# Altium footprint library Package_TO_SOT_SMD.PcbLib: 125 footprints (part 7 of 8)
Each footprint in its own frame and in the unit in brackets; x right, y up, seen from the top. Pads: shape width x height; smd on the part's side, far side on the other; paste and mask are expansions set on the pad; w line width, h text height; cw(c..) or ccw(c..) is an arc to the next point about the centre after c.
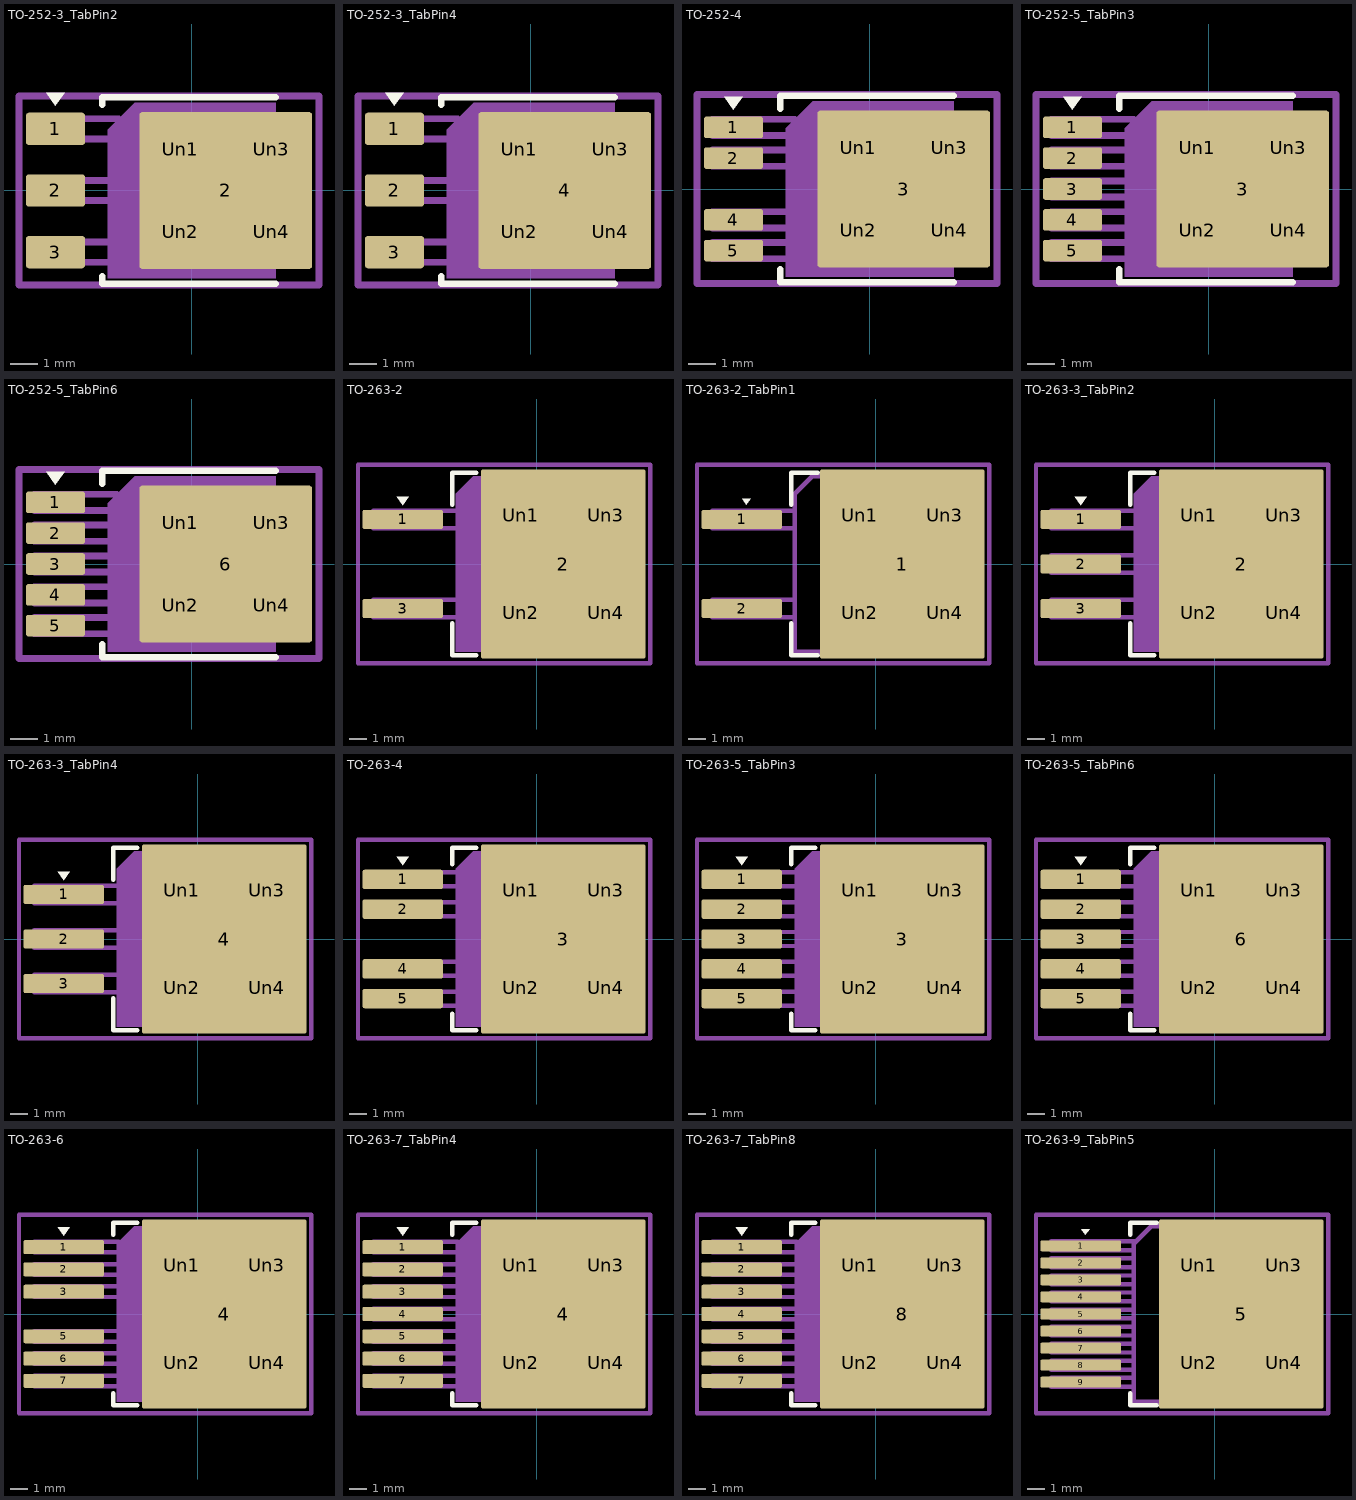
[diagram p6: the footprints below, top view; thin cyan lines are the x and y axes]

## TO-252-3_TabPin2 [mm] "TO-252-3_TabPin2"
pads (8):
  rrect21% 2.2x1.2 smd: 1(-5.04,2.28) 2(-5.04,0) 3(-5.04,-2.28)
  rrect4% 6.4x5.8 smd: 2(1.26,0)
  rrect9% 3.05x2.75 on Top Paste: Un1(-0.415,1.525) Un2(-0.415,-1.525) Un3(2.935,1.525) Un4(2.935,-1.525)
F.SilkS:
  region: -5.04,3.14 -5.38,3.61 -4.7,3.61
  lines w0.254: -3.31,-3.18 -3.31,-3.45 3.11,-3.45 ; -3.31,3.18 -3.31,3.45 3.11,3.45
Top Component Center:
  lines w0.127: -0.127,0 0.127,0 ; 0,-0.127 0,0.127
Top Assembly:
  region: 3.11,-3.25 -3.11,-3.25 -3.11,2.25 -2.11,3.25 3.11,3.25
  lines w0.254: -3.11,-2.655 -5.81,-2.655 -5.81,-1.905 -3.11,-1.905 ; -3.11,-0.375 -5.81,-0.375 -5.81,0.375 -3.11,0.375 ; -3.11,1.905 -5.81,1.905 -5.81,2.655 -2.705,2.655 ; 3.11,-2.7 4.11,-2.7 4.11,2.7 3.11,2.7
Top Courtyard:
  lines w0.254: -6.39,-3.5 4.71,-3.5 4.71,3.5 -6.39,3.5 -6.39,-3.5
Top Designator:
  text ".Designator" at -3.432,-0.345 h1.52
3D body "TO-252-3_TabPin2.step": height 2.32, standoff 0, extent -5.79,-3.25 4.11,3.25

## TO-252-3_TabPin4 [mm] "TO-252-3_TabPin4"
pads (8):
  rrect21% 2.2x1.2 smd: 1(-5.04,2.28) 2(-5.04,0) 3(-5.04,-2.28)
  rrect4% 6.4x5.8 smd: 4(1.26,0)
  rrect9% 3.05x2.75 on Top Paste: Un1(-0.415,1.525) Un2(-0.415,-1.525) Un3(2.935,1.525) Un4(2.935,-1.525)
F.SilkS:
  region: -5.04,3.14 -5.38,3.61 -4.7,3.61
  lines w0.254: -3.31,-3.18 -3.31,-3.45 3.11,-3.45 ; -3.31,3.18 -3.31,3.45 3.11,3.45
Top Component Center:
  lines w0.127: -0.127,0 0.127,0 ; 0,-0.127 0,0.127
Top Assembly:
  region: 3.11,-3.25 -3.11,-3.25 -3.11,2.25 -2.11,3.25 3.11,3.25
  lines w0.254: -3.11,-2.655 -5.81,-2.655 -5.81,-1.905 -3.11,-1.905 ; -3.11,-0.375 -5.81,-0.375 -5.81,0.375 -3.11,0.375 ; -3.11,1.905 -5.81,1.905 -5.81,2.655 -2.705,2.655 ; 3.11,-2.7 4.11,-2.7 4.11,2.7 3.11,2.7
Top Courtyard:
  lines w0.254: -6.39,-3.5 -6.39,3.5 4.71,3.5 4.71,-3.5 -6.39,-3.5
Top Designator:
  text ".Designator" at -3.432,-0.345 h1.52
3D body "TO-252-3_TabPin4.step": height 2.32, standoff 0, extent -5.79,-3.25 4.11,3.25

## TO-252-4 [mm] "TO-252-4"
pads (9):
  rrect25% 2.2x0.8 smd: 1(-5.04,2.28) 2(-5.04,1.14) 4(-5.04,-1.14) 5(-5.04,-2.28)
  rrect4% 6.4x5.8 smd: 3(1.26,0)
  rrect9% 3.05x2.75 on Top Paste: Un1(-0.415,1.525) Un2(-0.415,-1.525) Un3(2.935,1.525) Un4(2.935,-1.525)
F.SilkS:
  region: -5.04,2.94 -5.38,3.41 -4.7,3.41
  lines w0.254: -3.31,-2.98 -3.31,-3.45 3.11,-3.45 ; -3.31,2.98 -3.31,3.45 3.11,3.45
Top Component Center:
  lines w0.127: -0.127,0 0.127,0 ; 0,-0.127 0,0.127
Top Assembly:
  region: 3.11,-3.25 -3.11,-3.25 -3.11,2.25 -2.11,3.25 3.11,3.25
  lines w0.254: -3.11,-2.58 -5.81,-2.58 -5.81,-1.98 -3.11,-1.98 ; -3.11,-1.44 -5.81,-1.44 -5.81,-0.84 -3.11,-0.84 ; -3.11,0.84 -5.81,0.84 -5.81,1.44 -3.11,1.44 ; -3.11,1.98 -5.81,1.98 -5.81,2.58 -2.78,2.58 ; 3.11,-2.7 4.11,-2.7 4.11,2.7 3.11,2.7
Top Courtyard:
  lines w0.254: -6.39,-3.5 -6.39,3.5 4.71,3.5 4.71,-3.5 -6.39,-3.5
Top Designator:
  text ".Designator" at -3.432,-0.345 h1.52
3D body "TO-252-4.step": height 2.32, standoff 0, extent -5.79,-3.25 4.11,3.25

## TO-252-5_TabPin3 [mm] "TO-252-5_TabPin3"
pads (10):
  rrect25% 2.2x0.8 smd: 1(-5.04,2.28) 2(-5.04,1.14) 3(-5.04,0) 4(-5.04,-1.14) 5(-5.04,-2.28)
  rrect4% 6.4x5.8 smd: 3(1.26,0)
  rrect9% 3.05x2.75 on Top Paste: Un1(-0.415,1.525) Un2(-0.415,-1.525) Un3(2.935,1.525) Un4(2.935,-1.525)
F.SilkS:
  region: -5.04,2.94 -5.38,3.41 -4.7,3.41
  lines w0.254: -3.31,-2.98 -3.31,-3.45 3.11,-3.45 ; -3.31,2.98 -3.31,3.45 3.11,3.45
Top Component Center:
  lines w0.127: -0.127,0 0.127,0 ; 0,-0.127 0,0.127
Top Assembly:
  region: 3.11,-3.25 -3.11,-3.25 -3.11,2.25 -2.11,3.25 3.11,3.25
  lines w0.254: -3.11,-2.58 -5.81,-2.58 -5.81,-1.98 -3.11,-1.98 ; -3.11,-1.44 -5.81,-1.44 -5.81,-0.84 -3.11,-0.84 ; -3.11,-0.3 -5.81,-0.3 -5.81,0.3 -3.11,0.3 ; -3.11,0.84 -5.81,0.84 -5.81,1.44 -3.11,1.44 ; -3.11,1.98 -5.81,1.98 -5.81,2.58 -2.78,2.58 ; 3.11,-2.7 4.11,-2.7 4.11,2.7 3.11,2.7
Top Courtyard:
  lines w0.254: -6.39,-3.5 4.71,-3.5 4.71,3.5 -6.39,3.5 -6.39,-3.5
Top Designator:
  text ".Designator" at -3.432,-0.345 h1.52
3D body "TO-252-5_TabPin3.step": height 2.32, standoff 0, extent -5.79,-3.25 4.11,3.25

## TO-252-5_TabPin6 [mm] "TO-252-5_TabPin6"
pads (10):
  rrect25% 2.2x0.8 smd: 1(-5.04,2.28) 2(-5.04,1.14) 3(-5.04,0) 4(-5.04,-1.14) 5(-5.04,-2.28)
  rrect4% 6.4x5.8 smd: 6(1.26,0)
  rrect9% 3.05x2.75 on Top Paste: Un1(-0.415,1.525) Un2(-0.415,-1.525) Un3(2.935,1.525) Un4(2.935,-1.525)
F.SilkS:
  region: -5.04,2.94 -5.38,3.41 -4.7,3.41
  lines w0.254: -3.31,-2.98 -3.31,-3.45 3.11,-3.45 ; -3.31,2.98 -3.31,3.45 3.11,3.45
Top Component Center:
  lines w0.127: -0.127,0 0.127,0 ; 0,-0.127 0,0.127
Top Assembly:
  region: 3.11,-3.25 -3.11,-3.25 -3.11,2.25 -2.11,3.25 3.11,3.25
  lines w0.254: -3.11,-2.58 -5.81,-2.58 -5.81,-1.98 -3.11,-1.98 ; -3.11,-1.44 -5.81,-1.44 -5.81,-0.84 -3.11,-0.84 ; -3.11,-0.3 -5.81,-0.3 -5.81,0.3 -3.11,0.3 ; -3.11,0.84 -5.81,0.84 -5.81,1.44 -3.11,1.44 ; -3.11,1.98 -5.81,1.98 -5.81,2.58 -2.78,2.58 ; 3.11,-2.7 4.11,-2.7 4.11,2.7 3.11,2.7
Top Courtyard:
  lines w0.254: -6.39,-3.5 4.71,-3.5 4.71,3.5 -6.39,3.5 -6.39,-3.5
Top Designator:
  text ".Designator" at -3.432,-0.345 h1.52
3D body "TO-252-5_TabPin6.step": height 2.32, standoff 0, extent -5.79,-3.25 4.11,3.25

## TO-263-2 [mm] "TO-263-2"
pads (7):
  rrect23% 4.6x1.1 smd: 1(-7.65,2.54) 3(-7.65,-2.54)
  rrect3% 9.4x10.8 smd: 2(1.5,0)
  rrect5% 4.55x5.25 on Top Paste: Un1(-0.925,2.775) Un2(-0.925,-2.775) Un3(3.925,2.775) Un4(3.925,-2.775)
F.SilkS:
  region: -7.65,3.35 -7.99,3.82 -7.31,3.82
  lines w0.254: -4.825,-3.39 -4.825,-5.2 -3.46,-5.2 ; -4.825,3.39 -4.825,5.2 -3.46,5.2
Top Component Center:
  lines w0.127: -0.127,0 0.127,0 ; 0,-0.127 0,0.127
Top Assembly:
  region: 4.625,-5 -4.625,-5 -4.625,4 -3.625,5 4.625,5
  lines w0.254: -4.625,-3.04 -9.325,-3.04 -9.325,-2.04 -4.625,-2.04 ; -4.625,2.04 -9.325,2.04 -9.325,3.04 -4.625,3.04 ; 4.625,-5 5.625,-5 5.625,5 4.625,5
  text "'.Designator'" at -4.047,-0.84 h1
Top Courtyard:
  lines w0.254: -10.2,-5.65 6.45,-5.65 6.45,5.65 -10.2,5.65 -10.2,-5.65
Top Designator:
  text ".Designator" at -3.432,-0.345 h1.52
3D body "TO-263-2.step": height 4.42, standoff 0, extent -9.375,-5 5.625,5

## TO-263-2_TabPin1 [mm] "TO-263-2_TabPin1"
pads (7):
  rrect25% 4.6x1.1 smd: 1(-7.65,2.54) 2(-7.65,-2.54)
  rrect3% 9.4x10.8 smd: 1(1.5,0)
  rrect5% 4.55x5.25 on Top Paste: Un1(-0.925,2.775) Un2(-0.925,-2.775) Un3(3.925,2.775) Un4(3.925,-2.775)
F.SilkS:
  region: -7.388,3.39 -7.628,3.72 -7.147,3.72
  lines w0.254: -4.825,-3.39 -4.825,-5.2 -3.325,-5.2 ; -4.825,3.39 -4.825,5.2 -3.325,5.2
Top Component Center:
  lines w0.127: -0.127,0 0.127,0 ; 0,-0.127 0,0.127
Top Assembly:
  lines w0.254: -4.625,-3.04 -9.325,-3.04 -9.325,-2.04 -4.625,-2.04 ; -4.625,2.04 -9.325,2.04 -9.325,3.04 -4.625,3.04 ; 4.625,-5 4.625,5 ; 4.625,-5 -4.625,-5 -4.625,4 -3.625,5 4.625,5 ; 4.625,-5 5.625,-5 5.625,5 4.625,5
Top Courtyard:
  lines w0.254: -10.2,-5.65 -10.2,5.65 6.45,5.65 6.45,-5.65 -10.2,-5.65
Top Designator:
  text ".Designator" at -3.432,-0.345 h1.52
3D body "TO-263-2.step": height 4.42, standoff 0, extent -9.375,-5 5.625,5

## TO-263-3_TabPin2 [mm] "TO-263-3_TabPin2"
pads (8):
  rrect23% 4.6x1.1 smd: 1(-7.65,2.54) 2(-7.65,0) 3(-7.65,-2.54)
  rrect3% 9.4x10.8 smd: 2(1.5,0)
  rrect5% 4.55x5.25 on Top Paste: Un1(-0.925,2.775) Un2(-0.925,-2.775) Un3(3.925,2.775) Un4(3.925,-2.775)
F.SilkS:
  region: -7.65,3.35 -7.99,3.82 -7.31,3.82
  lines w0.254: -4.825,-3.39 -4.825,-5.2 -3.46,-5.2 ; -4.825,3.39 -4.825,5.2 -3.46,5.2
Top Component Center:
  lines w0.127: -0.127,0 0.127,0 ; 0,-0.127 0,0.127
Top Assembly:
  region: 4.625,-5 -4.625,-5 -4.625,4 -3.625,5 4.625,5
  lines w0.254: -4.625,-3.04 -9.325,-3.04 -9.325,-2.04 -4.625,-2.04 ; -4.625,-0.5 -9.325,-0.5 -9.325,0.5 -4.625,0.5 ; -4.625,2.04 -9.325,2.04 -9.325,3.04 -4.625,3.04 ; 4.625,-5 5.625,-5 5.625,5 4.625,5
  text "'.Designator'" at -4.047,-0.84 h1
Top Courtyard:
  lines w0.254: -10.2,-5.65 -10.2,5.65 6.45,5.65 6.45,-5.65 -10.2,-5.65
Top Designator:
  text ".Designator" at -3.432,-0.345 h1.52
3D body "TO-263-3_TabPin2.step": height 4.42, standoff 0, extent -9.375,-5 5.625,5

## TO-263-3_TabPin4 [mm] "TO-263-3_TabPin4"
pads (8):
  rrect23% 4.6x1.1 smd: 1(-7.65,2.54) 2(-7.65,0) 3(-7.65,-2.54)
  rrect3% 9.4x10.8 smd: 4(1.5,0)
  rrect5% 4.55x5.25 on Top Paste: Un1(-0.925,2.775) Un2(-0.925,-2.775) Un3(3.925,2.775) Un4(3.925,-2.775)
F.SilkS:
  region: -7.65,3.35 -7.99,3.82 -7.31,3.82
  lines w0.254: -4.825,-3.39 -4.825,-5.2 -3.46,-5.2 ; -4.825,3.39 -4.825,5.2 -3.46,5.2
Top Component Center:
  lines w0.127: -0.127,0 0.127,0 ; 0,-0.127 0,0.127
Top Assembly:
  region: 4.625,-5 -4.625,-5 -4.625,4 -3.625,5 4.625,5
  lines w0.254: -4.625,-3.04 -9.325,-3.04 -9.325,-2.04 -4.625,-2.04 ; -4.625,-0.5 -9.325,-0.5 -9.325,0.5 -4.625,0.5 ; -4.625,2.04 -9.325,2.04 -9.325,3.04 -4.625,3.04 ; 4.625,-5 5.625,-5 5.625,5 4.625,5
  text "'.Designator'" at -4.047,-0.84 h1
Top Courtyard:
  lines w0.254: -10.2,-5.65 6.45,-5.65 6.45,5.65 -10.2,5.65 -10.2,-5.65
Top Designator:
  text ".Designator" at -3.432,-0.345 h1.52
3D body "TO-263-3_TabPin4.step": height 4.42, standoff 0, extent -9.375,-5 5.625,5

## TO-263-4 [mm] "TO-263-4"
pads (9):
  rrect23% 4.6x1.1 smd: 1(-7.65,3.4) 2(-7.65,1.7) 4(-7.65,-1.7) 5(-7.65,-3.4)
  rrect3% 9.4x10.8 smd: 3(1.5,0)
  rrect5% 4.55x5.25 on Top Paste: Un1(-0.925,2.775) Un2(-0.925,-2.775) Un3(3.925,2.775) Un4(3.925,-2.775)
F.SilkS:
  region: -7.65,4.21 -7.99,4.68 -7.31,4.68
  lines w0.254: -4.825,-4.25 -4.825,-5.2 -3.46,-5.2 ; -4.825,4.25 -4.825,5.2 -3.46,5.2
Top Component Center:
  lines w0.127: -0.127,0 0.127,0 ; 0,-0.127 0,0.127
Top Assembly:
  region: 4.625,-5 -4.625,-5 -4.625,4 -3.625,5 4.625,5
  lines w0.254: -4.625,-3.8 -9.325,-3.8 -9.325,-3 -4.625,-3 ; -4.625,-2.1 -9.325,-2.1 -9.325,-1.3 -4.625,-1.3 ; -4.625,1.3 -9.325,1.3 -9.325,2.1 -4.625,2.1 ; -4.625,3 -9.325,3 -9.325,3.8 -4.625,3.8 ; 4.625,-5 5.625,-5 5.625,5 4.625,5
  text "'.Designator'" at -4.047,-0.84 h1
Top Courtyard:
  lines w0.254: -10.2,-5.65 6.45,-5.65 6.45,5.65 -10.2,5.65 -10.2,-5.65
Top Designator:
  text ".Designator" at -3.432,-0.345 h1.52
3D body "TO-263-4.step": height 4.42, standoff 0, extent -9.375,-5 5.625,5

## TO-263-5_TabPin3 [mm] "TO-263-5_TabPin3"
pads (10):
  rrect23% 4.6x1.1 smd: 1(-7.65,3.4) 2(-7.65,1.7) 3(-7.65,0) 4(-7.65,-1.7) 5(-7.65,-3.4)
  rrect3% 9.4x10.8 smd: 3(1.5,0)
  rrect5% 4.55x5.25 on Top Paste: Un1(-0.925,2.775) Un2(-0.925,-2.775) Un3(3.925,2.775) Un4(3.925,-2.775)
F.SilkS:
  region: -7.65,4.21 -7.99,4.68 -7.31,4.68
  lines w0.254: -4.825,-4.25 -4.825,-5.2 -3.46,-5.2 ; -4.825,4.25 -4.825,5.2 -3.46,5.2
Top Component Center:
  lines w0.127: -0.127,0 0.127,0 ; 0,-0.127 0,0.127
Top Assembly:
  region: 4.625,-5 -4.625,-5 -4.625,4 -3.625,5 4.625,5
  lines w0.254: -4.625,-3.8 -9.325,-3.8 -9.325,-3 -4.625,-3 ; -4.625,-2.1 -9.325,-2.1 -9.325,-1.3 -4.625,-1.3 ; -4.625,-0.4 -9.325,-0.4 -9.325,0.4 -4.625,0.4 ; -4.625,1.3 -9.325,1.3 -9.325,2.1 -4.625,2.1 ; -4.625,3 -9.325,3 -9.325,3.8 -4.625,3.8 ; 4.625,-5 5.625,-5 5.625,5 4.625,5
  text "'.Designator'" at -4.047,-0.84 h1
Top Courtyard:
  lines w0.254: -10.2,-5.65 -10.2,5.65 6.45,5.65 6.45,-5.65 -10.2,-5.65
Top Designator:
  text ".Designator" at -3.432,-0.345 h1.52
3D body "TO-263-5_TabPin3.step": height 4.42, standoff 0, extent -9.375,-5 5.625,5

## TO-263-5_TabPin6 [mm] "TO-263-5_TabPin6"
pads (10):
  rrect23% 4.6x1.1 smd: 1(-7.65,3.4) 2(-7.65,1.7) 3(-7.65,0) 4(-7.65,-1.7) 5(-7.65,-3.4)
  rrect3% 9.4x10.8 smd: 6(1.5,0)
  rrect5% 4.55x5.25 on Top Paste: Un1(-0.925,2.775) Un2(-0.925,-2.775) Un3(3.925,2.775) Un4(3.925,-2.775)
F.SilkS:
  region: -7.65,4.21 -7.99,4.68 -7.31,4.68
  lines w0.254: -4.825,-4.25 -4.825,-5.2 -3.46,-5.2 ; -4.825,4.25 -4.825,5.2 -3.46,5.2
Top Component Center:
  lines w0.127: -0.127,0 0.127,0 ; 0,-0.127 0,0.127
Top Assembly:
  region: 4.625,-5 -4.625,-5 -4.625,4 -3.625,5 4.625,5
  lines w0.254: -4.625,-3.8 -9.325,-3.8 -9.325,-3 -4.625,-3 ; -4.625,-2.1 -9.325,-2.1 -9.325,-1.3 -4.625,-1.3 ; -4.625,-0.4 -9.325,-0.4 -9.325,0.4 -4.625,0.4 ; -4.625,1.3 -9.325,1.3 -9.325,2.1 -4.625,2.1 ; -4.625,3 -9.325,3 -9.325,3.8 -4.625,3.8 ; 4.625,-5 5.625,-5 5.625,5 4.625,5
  text "'.Designator'" at -4.047,-0.84 h1
Top Courtyard:
  lines w0.254: -10.2,-5.65 -10.2,5.65 6.45,5.65 6.45,-5.65 -10.2,-5.65
Top Designator:
  text ".Designator" at -3.432,-0.345 h1.52
3D body "TO-263-5_TabPin6.step": height 4.42, standoff 0, extent -9.375,-5 5.625,5

## TO-263-6 [mm] "TO-263-6"
pads (11):
  rrect25% 4.6x0.8 smd: 1(-7.65,3.81) 2(-7.65,2.54) 3(-7.65,1.27) 5(-7.65,-1.27) 6(-7.65,-2.54) 7(-7.65,-3.81)
  rrect3% 9.4x10.8 smd: 4(1.5,0)
  rrect5% 4.55x5.25 on Top Paste: Un1(-0.925,2.775) Un2(-0.925,-2.775) Un3(3.925,2.775) Un4(3.925,-2.775)
F.SilkS:
  region: -7.65,4.47 -7.99,4.94 -7.31,4.94
  lines w0.254: -4.825,-4.51 -4.825,-5.2 -3.46,-5.2 ; -4.825,4.51 -4.825,5.2 -3.46,5.2
Top Component Center:
  lines w0.127: -0.127,0 0.127,0 ; 0,-0.127 0,0.127
Top Assembly:
  region: 4.625,-5 -4.625,-5 -4.625,4 -3.625,5 4.625,5
  lines w0.254: -4.625,-4.11 -9.325,-4.11 -9.325,-3.51 -4.625,-3.51 ; -4.625,-2.84 -9.325,-2.84 -9.325,-2.24 -4.625,-2.24 ; -4.625,-1.57 -9.325,-1.57 -9.325,-0.97 -4.625,-0.97 ; -4.625,0.97 -9.325,0.97 -9.325,1.57 -4.625,1.57 ; -4.625,2.24 -9.325,2.24 -9.325,2.84 -4.625,2.84 ; -4.625,3.51 -9.325,3.51 -9.325,4.11 -4.515,4.11 ; 4.625,-5 5.625,-5 5.625,5 4.625,5
  text "'.Designator'" at -4.047,-0.84 h1
Top Courtyard:
  lines w0.254: -10.2,-5.65 6.45,-5.65 6.45,5.65 -10.2,5.65 -10.2,-5.65
Top Designator:
  text ".Designator" at -3.432,-0.345 h1.52
3D body "TO-263-6.step": height 4.42, standoff 0, extent -9.375,-5 5.625,5

## TO-263-7_TabPin4 [mm] "TO-263-7_TabPin4"
pads (12):
  rrect25% 4.6x0.8 smd: 1(-7.65,3.81) 2(-7.65,2.54) 3(-7.65,1.27) 4(-7.65,0) 5(-7.65,-1.27) 6(-7.65,-2.54) 7(-7.65,-3.81)
  rrect3% 9.4x10.8 smd: 4(1.5,0)
  rrect5% 4.55x5.25 on Top Paste: Un1(-0.925,2.775) Un2(-0.925,-2.775) Un3(3.925,2.775) Un4(3.925,-2.775)
F.SilkS:
  region: -7.65,4.47 -7.99,4.94 -7.31,4.94
  lines w0.254: -4.825,-4.51 -4.825,-5.2 -3.46,-5.2 ; -4.825,4.51 -4.825,5.2 -3.46,5.2
Top Component Center:
  lines w0.127: -0.127,0 0.127,0 ; 0,-0.127 0,0.127
Top Assembly:
  region: 4.625,-5 -4.625,-5 -4.625,4 -3.625,5 4.625,5
  lines w0.254: -4.625,-4.11 -9.325,-4.11 -9.325,-3.51 -4.625,-3.51 ; -4.625,-2.84 -9.325,-2.84 -9.325,-2.24 -4.625,-2.24 ; -4.625,-1.57 -9.325,-1.57 -9.325,-0.97 -4.625,-0.97 ; -4.625,-0.3 -9.325,-0.3 -9.325,0.3 -4.625,0.3 ; -4.625,0.97 -9.325,0.97 -9.325,1.57 -4.625,1.57 ; -4.625,2.24 -9.325,2.24 -9.325,2.84 -4.625,2.84 ; -4.625,3.51 -9.325,3.51 -9.325,4.11 -4.515,4.11 ; 4.625,-5 5.625,-5 5.625,5 4.625,5
  text "'.Designator'" at -4.047,-0.84 h1
Top Courtyard:
  lines w0.254: -10.2,-5.65 -10.2,5.65 6.45,5.65 6.45,-5.65 -10.2,-5.65
Top Designator:
  text ".Designator" at -3.432,-0.345 h1.52
3D body "TO-263-7_TabPin4.step": height 4.42, standoff 0, extent -9.375,-5 5.625,5

## TO-263-7_TabPin8 [mm]
pads (12):
  rrect25% 4.6x0.8 smd: 1(-7.65,3.81) 2(-7.65,2.54) 3(-7.65,1.27) 4(-7.65,0) 5(-7.65,-1.27) 6(-7.65,-2.54) 7(-7.65,-3.81)
  rrect3% 9.4x10.8 smd: 8(1.5,0)
  rrect5% 4.55x5.25 on Top Paste: Un1(-0.925,2.775) Un2(-0.925,-2.775) Un3(3.925,2.775) Un4(3.925,-2.775)
F.SilkS:
  region: -7.65,4.47 -7.99,4.94 -7.31,4.94
  lines w0.254: -4.825,-4.51 -4.825,-5.2 -3.46,-5.2 ; -4.825,4.51 -4.825,5.2 -3.46,5.2
Top Component Center:
  lines w0.127: -0.127,0 0.127,0 ; 0,-0.127 0,0.127
Top Assembly:
  region: 4.625,-5 -4.625,-5 -4.625,4 -3.625,5 4.625,5
  lines w0.254: -4.625,-4.11 -9.325,-4.11 -9.325,-3.51 -4.625,-3.51 ; -4.625,-2.84 -9.325,-2.84 -9.325,-2.24 -4.625,-2.24 ; -4.625,-1.57 -9.325,-1.57 -9.325,-0.97 -4.625,-0.97 ; -4.625,-0.3 -9.325,-0.3 -9.325,0.3 -4.625,0.3 ; -4.625,0.97 -9.325,0.97 -9.325,1.57 -4.625,1.57 ; -4.625,2.24 -9.325,2.24 -9.325,2.84 -4.625,2.84 ; -4.625,3.51 -9.325,3.51 -9.325,4.11 -4.515,4.11 ; 4.625,-5 5.625,-5 5.625,5 4.625,5
  text "'.Designator'" at -4.047,-0.84 h1
Top Courtyard:
  lines w0.254: -10.2,-5.65 6.45,-5.65 6.45,5.65 -10.2,5.65 -10.2,-5.65
Top Designator:
  text ".Designator" at -3.432,-0.345 h1.52
3D body "TO-263-7_TabPin4.step": height 4.42, standoff 0, extent -9.375,-5 5.625,5

## TO-263-9_TabPin5 [mm] "TO-263-9_TabPin5"
pads (14):
  rrect25% 4.6x0.61 smd: 1(-7.65,3.88) 2(-7.65,2.91) 3(-7.65,1.94) 4(-7.65,0.97) 5(-7.65,0) 6(-7.65,-0.97) 7(-7.65,-1.94) 8(-7.65,-2.91) 9(-7.65,-3.88)
  rrect3% 9.4x10.8 smd: 5(1.5,0)
  rrect5% 4.55x5.25 on Top Paste: Un1(-0.925,2.775) Un2(-0.925,-2.775) Un3(3.925,2.775) Un4(3.925,-2.775)
F.SilkS:
  region: -7.388,4.51 -7.628,4.84 -7.147,4.84
  lines w0.254: -4.825,-4.51 -4.825,-5.2 -3.325,-5.2 ; -4.825,4.51 -4.825,5.2 -3.325,5.2
Top Component Center:
  lines w0.127: -0.127,0 0.127,0 ; 0,-0.127 0,0.127
Top Assembly:
  lines w0.254: -4.625,-4.135 -9.325,-4.135 -9.325,-3.625 -4.625,-3.625 ; -4.625,-3.165 -9.325,-3.165 -9.325,-2.655 -4.625,-2.655 ; -4.625,-2.195 -9.325,-2.195 -9.325,-1.685 -4.625,-1.685 ; -4.625,-1.225 -9.325,-1.225 -9.325,-0.715 -4.625,-0.715 ; -4.625,-0.255 -9.325,-0.255 -9.325,0.255 -4.625,0.255 ; -4.625,0.715 -9.325,0.715 -9.325,1.225 -4.625,1.225 ; -4.625,1.685 -9.325,1.685 -9.325,2.195 -4.625,2.195 ; -4.625,2.655 -9.325,2.655 -9.325,3.165 -4.625,3.165 ; -4.625,3.625 -9.325,3.625 -9.325,4.135 -4.49,4.135 ; 4.625,-5 5.625,-5 5.625,5 4.625,5 ; 4.625,-5 -4.625,-5 -4.625,4 -3.625,5 4.625,5 ; 4.625,-5 4.625,5
Top Courtyard:
  lines w0.254: -10.2,-5.65 6.45,-5.65 6.45,5.65 -10.2,5.65 -10.2,-5.65
Top Designator:
  text ".Designator" at -3.432,-0.345 h1.52
3D body "TO-263-9_TabPin5.step": height 4.42, standoff 0, extent -9.375,-5 5.625,5